# EAGLE library part 50246-008 (library con-aces-50246-series)
ACES CONNECTORS 50246 SERIES ACES Connecors 50246 <https://www.acesconn.com/tw/series/50246-xxxxx-xxx/1292>
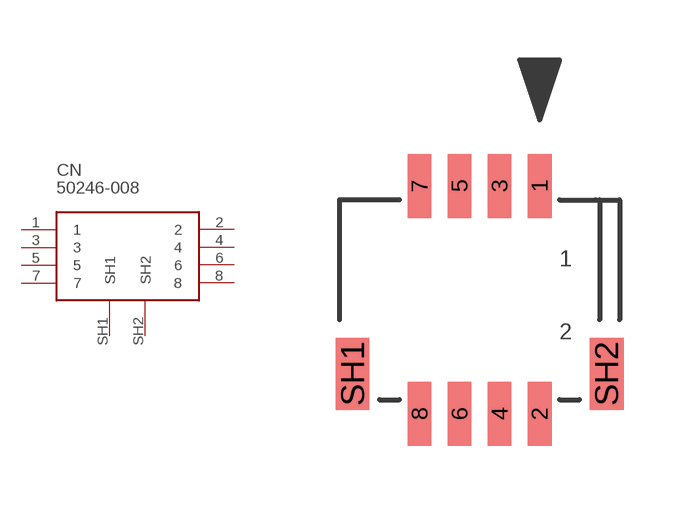
[diagram p0: symbol with the pads of 50246-008; footprint 50246-008]

Designator prefix CN

## 50246-008  [50246-008]
1  1
2  2
3  3
4  4
5  5
6  6
7  7
8  8
SH1  SH1
SH2  SH2

## Footprint 50246-008 (pad centres in mm)
smd 0.6 x 1.6: 1 1.5,2.85; 2 1.5,-2.85; 3 0.5,2.85; 4 0.5,-2.85; 5 -0.5,2.85; 6 -0.5,-2.85; 7 -1.5,2.85; 8 -1.5,-2.85
smd 0.85 x 1.8: SH1 -3.175,-1.85; SH2 3.175,-1.85